# Altium integrated library BLM21BD152SN1D.IntLib: 1 symbol
Pins are listed as number, name and electrical type; pins without a type are passive.

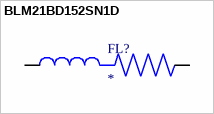
[diagram p0: symbol BLM21BD152SN1D]

## BLM21BD152SN1D
designator FL?
1.5 kOhms @ 100MHz 1 Signal Line Ferrite Bead 0805 (2012 Metric) 250mA 450mOhm; MP: BLM21BD152SN1D; MF: Murata; Availability: Good; Check_prices: https://www.snapeda.com/parts/BLM21BD152SN1D/Murata/view-part/290529/?ref=eda; Value: *; Package: 2012 Murata; Price: None; SnapEDA_Link: https://www.snapeda.com/parts/BLM21BD152SN1D/Murata/view-part/290529/?ref=snap; Purchase-URL: https://pricing.snapeda.com/search/part/BLM21BD152SN1D/?ref=eda
footprint BEADC2012X105N
pins: 1, 2